# Altium schematic symbol library Mounting_holes.SchLib: 2 symbols
Pins are listed as number, name and electrical type; pins without a type are passive.

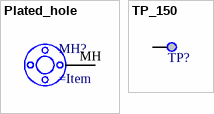
[diagram p0: symbols Plated_hole to TP_150]

## Plated_hole
designator MH?
pins: MH

## TP_150
designator TP?, comment TP  (value not drawn)  (no BOM)
TEST POINT ROUND
pins: 1